# Altium footprint library 750032052.PcbLib: 1 footprints
Each footprint in its own frame and in the unit in brackets; x right, y up, seen from the top. Pads: shape width x height; smd on the part's side, far side on the other; paste and mask are expansions set on the pad; w line width, h text height; cw(c..) or ccw(c..) is an arc to the next point about the centre after c.
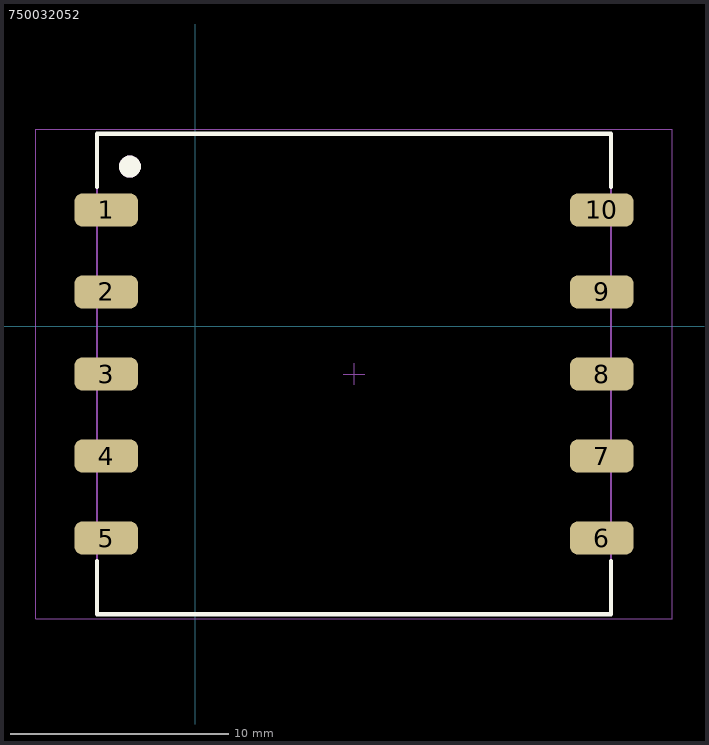
[diagram p0: the footprint, top view; thin cyan lines are the x and y axes]

## 750032052 [mm]
pads (10):
  rrect50% 2.92x1.52 smd: 1(-4.077,5.31) 2(-4.077,1.56) 3(-4.077,-2.19) 4(-4.077,-5.94) 5(-4.077,-9.69) 6(18.583,-9.69) 7(18.583,-5.94) 8(18.583,-2.19) 9(18.583,1.56) 10(18.583,5.31)
Top Overlay:
  circle w0.8: c-2.997,7.295 r0.1
  lines w0.2: -4.497,-10.74 -4.497,-13.175 19.003,-13.175 19.003,-10.74 ; -4.497,6.36 -4.497,8.795 19.003,8.795 19.003,6.36
Top Assembly:
  circle w0.8: c-2.997,7.295 r0.1
  lines w0.1: -4.497,-13.175 -4.497,8.795 19.003,8.795 19.003,-13.175 -4.497,-13.175
Top Courtyard:
  lines w0.05: 6.753,-2.19 7.753,-2.19 ; 7.253,-2.69 7.253,-1.69 ; -7.297,-13.375 -7.297,8.995 21.803,8.995 21.803,-13.375 -7.297,-13.375
3D body "EFD20_750032051.stp": height 10.23, standoff 0, extent -6.497,-12.94 21.003,8.56